# Altium schematic symbol library 1888811-1.SchLib: 1 symbol
Pins are listed as number, name and electrical type; pins without a type are passive.

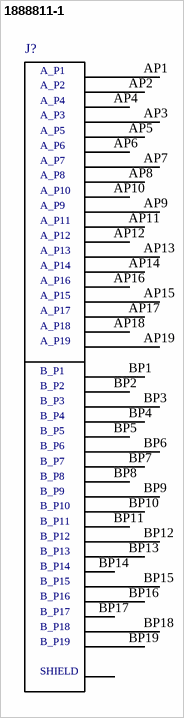
[diagram p0: symbol 1888811-1]

## 1888811-1
designator J?  (value not drawn)
Connector Assembly Stacked HDMI; Centerline_Pitch: 1 mm[.039 in]; MF: TE Connectivity; Number_of_Positions: 38; Price: None; Package: None; Product_Type: Connector; TE_purchase_URL: https://www.te.com/usa-en/product-1888811-1.html?te_bu=Cor&te_type=disp&te_campaign=seda_glo_cor-seda-global-disp-prtnr-fy19-seda-model-bom-cta_sma-317_1&elqCampaignId=32493; MP: 1888811-1; SnapEDA_Link: https://www.snapeda.com/parts/1888811-1/TE%20Connectivity%20AMP%20Connectors/view-part/?ref=snap; Availability: Unavailable; Value: *
footprint *TE_1888811-1_1888811-1(Primary)
pins: AP1 A_P1, AP2 A_P2, AP3 A_P3, AP4 A_P4, AP5 A_P5, AP6 A_P6, AP7 A_P7, AP8 A_P8, AP9 A_P9, AP10 A_P10, AP11 A_P11, AP12 A_P12, AP13 A_P13, AP14 A_P14, AP15 A_P15, AP16 A_P16, AP17 A_P17, AP18 A_P18, AP19 A_P19, BP1 B_P1, BP2 B_P2, BP3 B_P3, BP4 B_P4, BP5 B_P5, BP6 B_P6, BP7 B_P7, BP8 B_P8, BP9 B_P9, BP10 B_P10, BP11 B_P11, BP12 B_P12, BP13 B_P13, BP14 B_P14, BP15 B_P15, BP16 B_P16, BP17 B_P17, BP18 B_P18, BP19 B_P19, SH1 SHIELD, SH2 SHIELD, SH3 SHIELD, SH4 SHIELD, SH5 SHIELD, SH6 SHIELD